# Altium schematic symbol library ALCT_MEZ_SPARTAN6_Library.SchLib: 214 symbols (part 4 of 7)
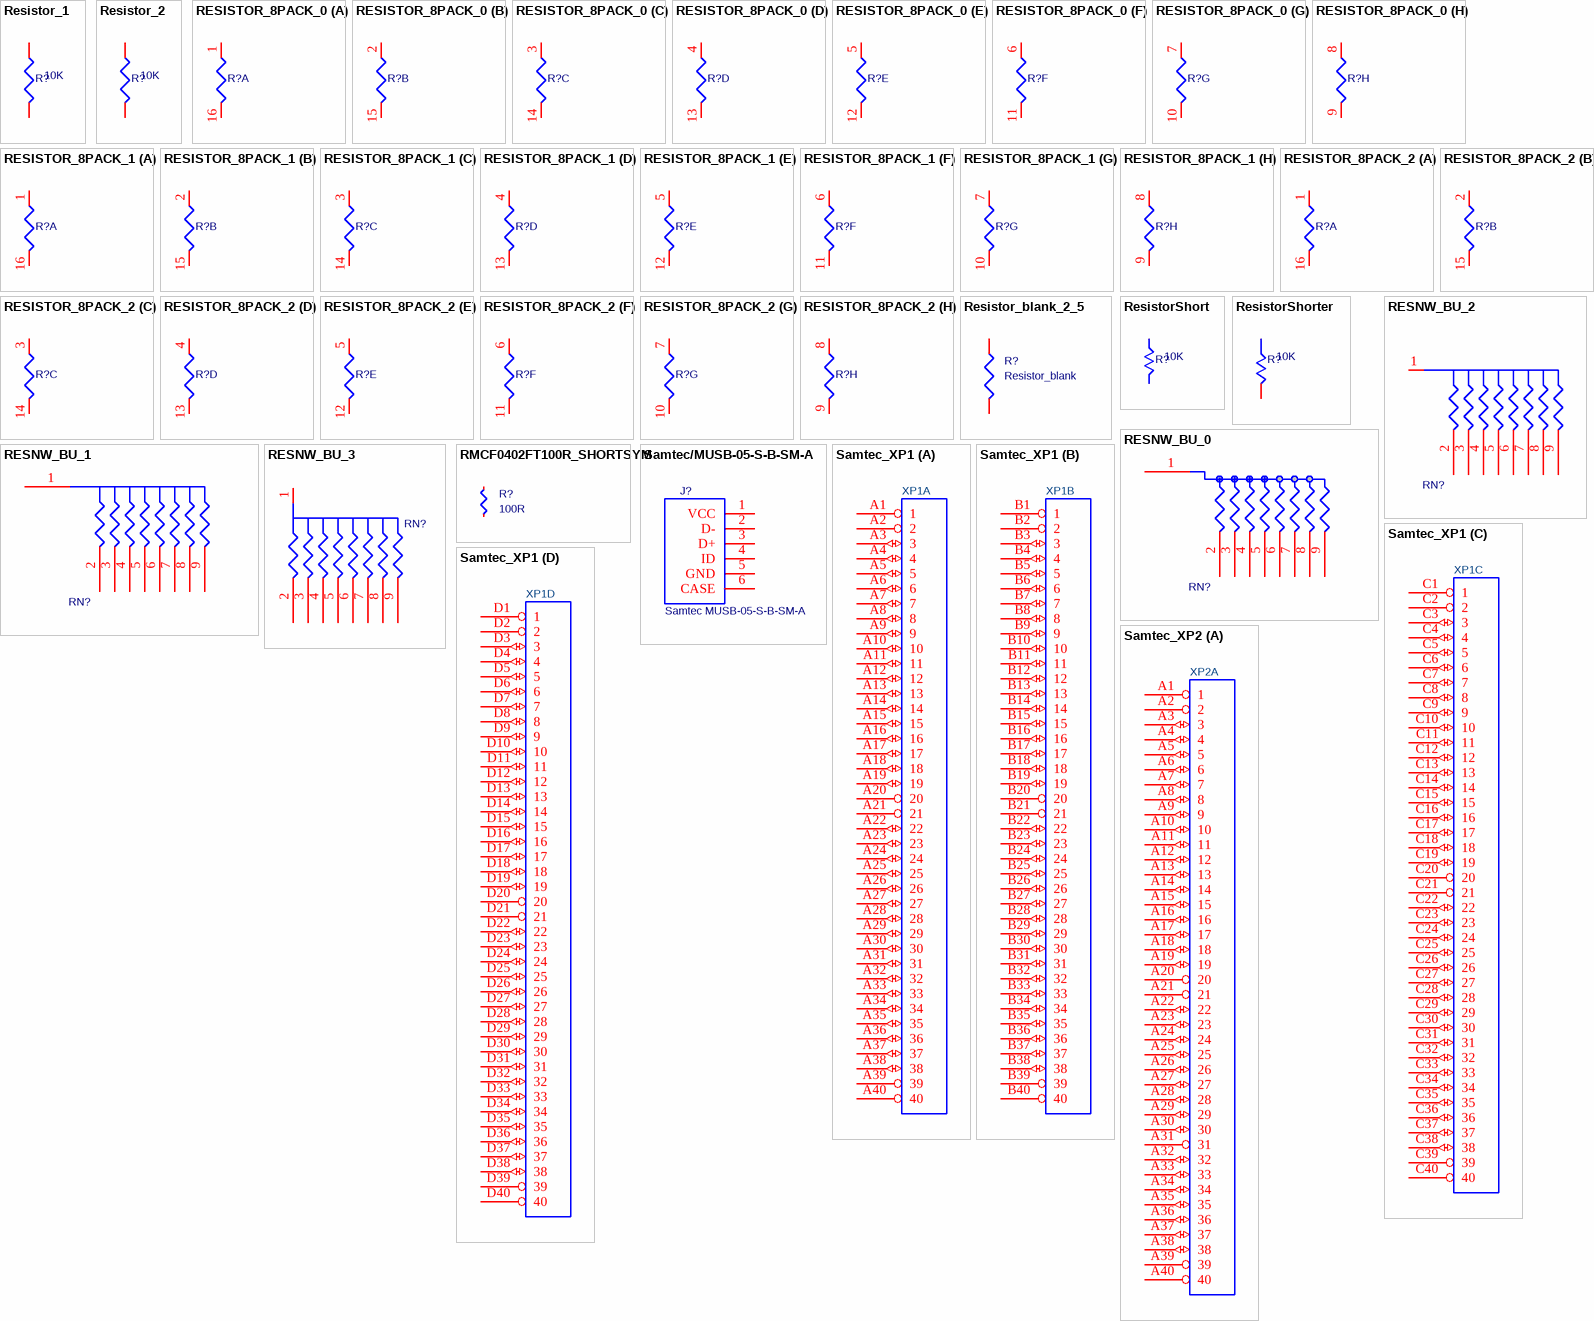
[diagram p23: symbols Resistor_1 to Samtec_XP2]

## RESISTOR_8PACK_2
designator R?
Package: 0
part A pins: 1, 16 2
part B pins: 2 1, 15 2
part C pins: 3 1, 14 2
part D pins: 4 1, 13 2
part E pins: 5 1, 12 2
part F pins: 6 1, 11 2
part G pins: 7 1, 10 2
part H pins: 8 1, 9 2

## Resistor_blank_2_5
designator R?, comment Resistor_blank
pins: 1, 2

## ResistorShort
designator R?, comment 10K
COMPSIDE: TOP; COMPGROUP: 0; mfgr_foot: SMT0805; mfgr: Panasonic; tolerance: 1%; mfgr_id: ERJ-6ENF1002V; COMPROT: 0
footprint GAPS/SM/R_0805
pins: 1, 2

## ResistorShorter
designator R?, comment 10K
mfgr_id: ERJ-6ENF1002V; tolerance: 1%; mfgr: Panasonic; mfgr_foot: SMT0805; COMPROT: 0; COMPSIDE: TOP; COMPGROUP: 0
footprint GAPS/SM/R_0805
pins: 1, 2

## RESNW_BU_0
designator RN?
pins: 1, 2, 3, 4, 5, 6, 7, 8, 9

## RESNW_BU_1
designator RN?
pins: 1, 2, 3, 4, 5, 6, 7, 8, 9

## RESNW_BU_2
designator RN?
pins: 1, 2, 3, 4, 5, 6, 7, 8, 9

## RESNW_BU_3
designator RN?
pins: 1, 2, 3, 4, 5, 6, 7, 8, 9

## RMCF0402FT100R_SHORTSYM
designator R?, comment 100R
RES SMD 510 OHM 1% 1/16W 0402; Manufacturer: Stackpole Electronics Inc.; Manufacturer Part Number: RMCF0402FT100R; Power (Watts): 0.063W, 1/16W; Temperature Coefficient: ±100ppm/°C; Supplier 1: Digi-Key; RoHS: RoHS Compliant; Category: Resistors; Stock 1: 263860; Pricing 1: 1=0.1, 10=0.017, 100=0.0068, 1000=0.00306, 2500=0.00266, 5000=0.00219 (USD); Packaging: Digi-Reel®; Part Status: Active; Tolerance: ±1%; Composition: Thick Film; Features: Automotive AEC-Q200; Operating Temperature: -55°C ~ 155°C; Package / Case: 0402 (1005 Metric); Supplier Device Package: 0402; Size / Dimension: 0.039" L x 0.020" W (1.00mm x 0.50mm); Height - Seated (Max): 0.016" (0.40mm); Failure Rate: -; ComponentLink1URL: https://www.seielect.com/Catalog/SEI-RMCF_RMCP.pdf; ComponentLink1Description: https://www.seielect.com/Catalog/SEI-RMCF_RMCP.pdf; Supplier Part Number 1: RMCF0402FT100RDKR-ND
footprint MC_S6/SM/R_0402_IPC
pins: 1, 2

## Samtec/MUSB-05-S-B-SM-A
designator J?, comment Samtec MUSB-05-S-B-SM-A
USB, Mini-USB, SMD; Manufacturer: Samtec Inc.; Connector Type: USB - mini B; Number of Contacts: 5; Gender: Receptacle; Specifications: USB 2.0; Supplier 1: Digi-Key; Manufacturer Part Number: MUSB-05-S-B-SM-A; RoHS: RoHS Compliant; Category: Connectors, Interconnects; Stock 1: 1209; Pricing 1: 1=1.48, 10=1.222, 50=1.018, 100=0.9162, 250=0.84496, 500=0.7635, 1000=0.67697, 2500=0.64898, 5000=0.63625 (USD); Packaging: Tray; Mounting Type: Surface Mount, Right Angle, Horizontal; Features: Board Guide, Solder Retention; Ingress Protection: -; ComponentLink1URL: http://suddendocs.samtec.com/prints/musb-05-x-b-sm-a-x-xx-mkt.pdf; ComponentLink1Description: http://suddendocs.samtec.com/prints/musb-05-x-b-sm-a-x-xx-mkt.pdf; Supplier Part Number 1: SAM8841-ND
footprint MUSB-05-S-B-SM-A
pins: 1 VCC, 2 D-, 3 D+, 4 ID, 5 GND, 6 CASE

## Samtec_XP1
designator XP?
Manufacturer Part Number: MOLC-140-01-L-Q-LC; mfgr_id: MOLC-140-01-S-Q-LC; mfgr: Samtec; mfgr_foot: 40x4; COMPROT: 180; COMPGROUP: 0; COMPSIDE: TOP; Pitch Spacing: 1.27; No. of Contacts: 160; Gender: Header; Product Range: MOLC Series; Contact Termination Type: Through Hole; No. of Rows: 4; SVHC: No SVHC (12-Jan-2017; Package: XP1; Supplier 1: Farnell; Manufacturer: SAMTEC; RoHS: YES; Stock 1: 0; Pricing 1: 1=18.16, 3=17.11, 5=16.18, 10=15.35, 15=14.96, 25=14.34 (GBP); Contact Plating: Gold Plated Contacts; Contact Material: Phosphor Bronze; ComponentLink1URL: http://www.farnell.com/cad/2261282.pdf; ComponentLink1Description: http://www.farnell.com/cad/2261282.pdf; ComponentLink2URL: http://www.farnell.com/datasheets/2261038.pdf; ComponentLink2Description: http://www.farnell.com/datasheets/2261038.pdf; Supplier Part Number 1: 2732055
footprint MC_S6/TH/SAMTEC_MOLC_40x4
part A pins: A1 1 (power), A2 2 (power), A3 3 (io), A4 4 (io), A5 5 (io), A6 6 (io), A7 7 (io), A8 8 (io), A9 9 (io), A10 10 (io), A11 11 (io), A12 12 (io), A13 13 (io), A14 14 (io), A15 15 (io), A16 16 (io), A17 17 (io), A18 18 (io), A19 19 (io), A20 20 (power), A21 21 (power), A22 22 (io), A23 23 (io), A24 24 (io), A25 25 (io), A26 26 (io), A27 27 (io), A28 28 (io), A29 29 (io), A30 30 (io), A31 31 (io), A32 32 (io), A33 33 (io), A34 34 (io), A35 35 (io), A36 36 (io), A37 37 (io), A38 38 (io), A39 39 (power), A40 40 (power)
part B pins: B1 1 (power), B2 2 (power), B3 3 (io), B4 4 (io), B5 5 (io), B6 6 (io), B7 7 (io), B8 8 (io), B9 9 (io), B10 10 (io), B11 11 (io), B12 12 (io), B13 13 (io), B14 14 (io), B15 15 (io), B16 16 (io), B17 17 (io), B18 18 (io), B19 19 (io), B20 20 (power), B21 21 (power), B22 22 (io), B23 23 (io), B24 24 (io), B25 25 (io), B26 26 (io), B27 27 (io), B28 28 (io), B29 29 (io), B30 30 (io), B31 31 (io), B32 32 (io), B33 33 (io), B34 34 (io), B35 35 (io), B36 36 (io), B37 37 (io), B38 38 (io), B39 39 (power), B40 40 (power)
part C pins: C1 1 (power), C2 2 (power), C3 3 (io), C4 4 (io), C5 5 (io), C6 6 (io), C7 7 (io), C8 8 (io), C9 9 (io), C10 10 (io), C11 11 (io), C12 12 (io), C13 13 (io), C14 14 (io), C15 15 (io), C16 16 (io), C17 17 (io), C18 18 (io), C19 19 (io), C20 20 (power), C21 21 (power), C22 22 (io), C23 23 (io), C24 24 (io), C25 25 (io), C26 26 (io), C27 27 (io), C28 28 (io), C29 29 (io), C30 30 (io), C31 31 (io), C32 32 (io), C33 33 (io), C34 34 (io), C35 35 (io), C36 36 (io), C37 37 (io), C38 38 (io), C39 39 (power), C40 40 (power)
part D pins: D1 1 (power), D2 2 (power), D3 3 (io), D4 4 (io), D5 5 (io), D6 6 (io), D7 7 (io), D8 8 (io), D9 9 (io), D10 10 (io), D11 11 (io), D12 12 (io), D13 13 (io), D14 14 (io), D15 15 (io), D16 16 (io), D17 17 (io), D18 18 (io), D19 19 (io), D20 20 (power), D21 21 (power), D22 22 (io), D23 23 (io), D24 24 (io), D25 25 (io), D26 26 (io), D27 27 (io), D28 28 (io), D29 29 (io), D30 30 (io), D31 31 (io), D32 32 (io), D33 33 (io), D34 34 (io), D35 35 (io), D36 36 (io), D37 37 (io), D38 38 (io), D39 39 (power), D40 40 (power)
part A text: XP1A
part B text: XP1B
part C text: XP1C
part D text: XP1D

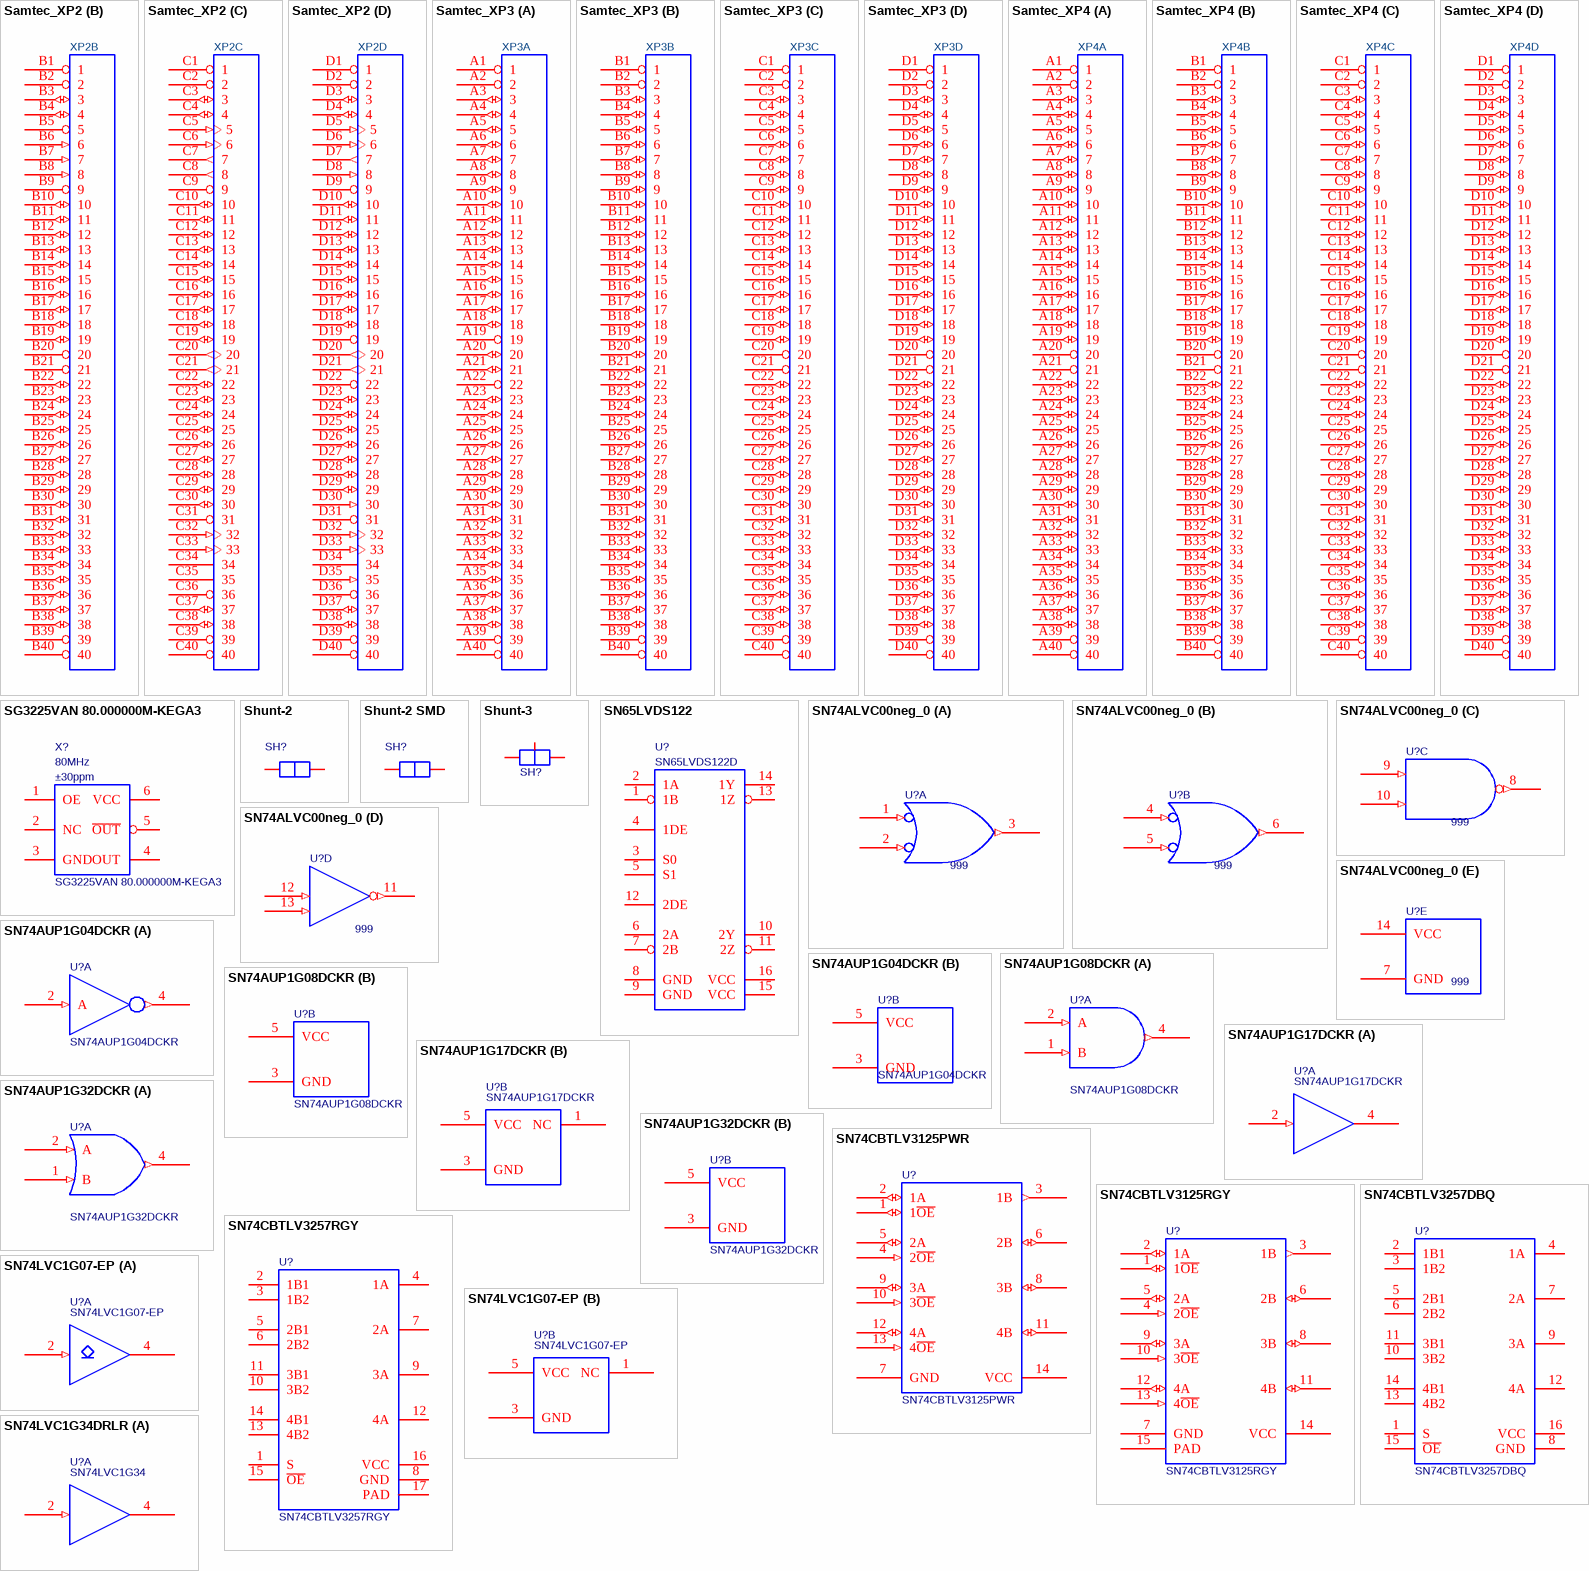
[diagram p6: symbols Samtec_XP2 to SN74LVC1G34DRLR]

## Samtec_XP2
designator XP?  (value not drawn)
Manufacturer Part Number: MOLC-140-01-L-Q-LC; mfgr_foot: 40x4; mfgr: Samtec; mfgr_id: MOLC-140-01-S-Q-LC; COMPROT: 270; COMPGROUP: 0; COMPSIDE: TOP; Pitch Spacing: 1.27; No. of Contacts: 160; Gender: Header; Product Range: MOLC Series; Contact Termination Type: Through Hole; No. of Rows: 4; SVHC: No SVHC (12-Jan-2017; Package: XP2; Supplier 1: Farnell; Manufacturer: SAMTEC; RoHS: YES; Stock 1: 0; Pricing 1: 1=18.16, 3=17.11, 5=16.18, 10=15.35, 15=14.96, 25=14.34 (GBP); Contact Plating: Gold Plated Contacts; Contact Material: Phosphor Bronze; ComponentLink1URL: http://www.farnell.com/cad/2261282.pdf; ComponentLink1Description: http://www.farnell.com/cad/2261282.pdf; ComponentLink2URL: http://www.farnell.com/datasheets/2261038.pdf; ComponentLink2Description: http://www.farnell.com/datasheets/2261038.pdf; Supplier Part Number 1: 2732055
footprint MC_S6/TH/SAMTEC_MOLC_40x4
part A pins: A1 1 (power), A2 2 (power), A3 3 (io), A4 4 (io), A5 5 (io), A6 6 (io), A7 7 (io), A8 8 (io), A9 9 (io), A10 10 (io), A11 11 (io), A12 12 (io), A13 13 (io), A14 14 (io), A15 15 (io), A16 16 (io), A17 17 (io), A18 18 (io), A19 19 (io), A20 20 (power), A21 21 (power), A22 22 (io), A23 23 (io), A24 24 (io), A25 25 (io), A26 26 (io), A27 27 (io), A28 28 (io), A29 29 (io), A30 30 (io), A31 31 (power), A32 32 (io), A33 33 (io), A34 34 (io), A35 35 (io), A36 36 (io), A37 37 (io), A38 38 (io), A39 39 (power), A40 40 (power)
part B pins: B1 1 (power), B2 2 (power), B3 3 (io), B4 4 (io), B5 5 (power), B6 6 (in), B7 7 (in), B8 8 (in), B9 9 (power), B10 10 (io), B11 11 (io), B12 12 (io), B13 13 (io), B14 14 (io), B15 15 (io), B16 16 (io), B17 17 (io), B18 18 (io), B19 19 (io), B20 20 (power), B21 21 (power), B22 22 (io), B23 23 (io), B24 24 (io), B25 25 (io), B26 26 (io), B27 27 (io), B28 28 (io), B29 29 (io), B30 30 (io), B31 31 (io), B32 32 (io), B33 33 (io), B34 34 (io), B35 35 (io), B36 36 (io), B37 37 (io), B38 38 (io), B39 39 (power), B40 40 (power)
part C pins: C1 1 (power), C2 2 (power), C3 3 (io), C4 4 (io), C5 5 (in), C6 6 (in), C7 7 (out), C8 8 (out), C9 9 (power), C10 10 (io), C11 11 (io), C12 12 (io), C13 13 (io), C14 14 (io), C15 15 (io), C16 16 (io), C17 17 (io), C18 18 (io), C19 19 (io), C20 20 (out), C21 21 (out), C22 22 (io), C23 23 (io), C24 24 (io), C25 25 (io), C26 26 (io), C27 27 (io), C28 28 (io), C29 29 (io), C30 30 (io), C31 31 (power), C32 32 (in), C33 33 (in), C34 34, C35 35, C36 36 (power), C37 37 (io), C38 38 (io), C39 39 (power), C40 40 (power)
part D pins: D1 1 (power), D2 2 (power), D3 3 (io), D4 4 (io), D5 5 (in), D6 6 (in), D7 7 (out), D8 8 (in), D9 9 (power), D10 10 (io), D11 11 (io), D12 12 (io), D13 13 (io), D14 14 (io), D15 15 (io), D16 16 (io), D17 17 (io), D18 18 (io), D19 19 (power), D20 20 (out), D21 21 (out), D22 22 (power), D23 23 (io), D24 24 (io), D25 25 (io), D26 26 (io), D27 27 (io), D28 28 (io), D29 29 (io), D30 30 (in), D31 31 (power), D32 32 (in), D33 33 (in), D34 34 (oc), D35 35 (in), D36 36 (power), D37 37 (io), D38 38 (io), D39 39 (power), D40 40 (power)
part A text: XP2A
part B text: XP2B
part C text: XP2C
part D text: XP2D

## Samtec_XP3
designator XP?  (value not drawn)
Manufacturer Part Number: MOLC-140-01-L-Q-LC; mfgr_id: MOLC-140-01-S-Q-LC; mfgr: Samtec; mfgr_foot: 40x4; COMPROT: 270; COMPGROUP: 0; COMPSIDE: TOP; Pitch Spacing: 1.27; No. of Contacts: 160; Gender: Header; Product Range: MOLC Series; Contact Termination Type: Through Hole; No. of Rows: 4; SVHC: No SVHC (12-Jan-2017; Package: XP3; Supplier 1: Farnell; Manufacturer: SAMTEC; RoHS: YES; Stock 1: 0; Pricing 1: 1=18.16, 3=17.11, 5=16.18, 10=15.35, 15=14.96, 25=14.34 (GBP); Contact Plating: Gold Plated Contacts; Contact Material: Phosphor Bronze; ComponentLink1URL: http://www.farnell.com/cad/2261282.pdf; ComponentLink1Description: http://www.farnell.com/cad/2261282.pdf; ComponentLink2URL: http://www.farnell.com/datasheets/2261038.pdf; ComponentLink2Description: http://www.farnell.com/datasheets/2261038.pdf; Supplier Part Number 1: 2732055
footprint MC_S6/TH/SAMTEC_MOLC_40x4
part A pins: A1 1 (power), A2 2 (power), A3 3 (io), A4 4 (io), A5 5 (io), A6 6 (io), A7 7 (io), A8 8 (io), A9 9 (io), A10 10 (io), A11 11 (io), A12 12 (io), A13 13 (io), A14 14 (io), A15 15 (io), A16 16 (io), A17 17 (io), A18 18 (io), A19 19 (power), A20 20 (io), A21 21 (io), A22 22 (power), A23 23 (io), A24 24 (io), A25 25 (io), A26 26 (io), A27 27 (io), A28 28 (io), A29 29 (io), A30 30 (io), A31 31 (io), A32 32 (io), A33 33 (io), A34 34 (io), A35 35 (io), A36 36 (io), A37 37 (io), A38 38 (io), A39 39 (power), A40 40 (power)
part B pins: B1 1 (power), B2 2 (power), B3 3 (io), B4 4 (io), B5 5 (io), B6 6 (io), B7 7 (io), B8 8 (io), B9 9 (io), B10 10 (io), B11 11 (io), B12 12 (io), B13 13 (io), B14 14 (io), B15 15 (io), B16 16 (io), B17 17 (io), B18 18 (io), B19 19 (io), B20 20 (io), B21 21 (io), B22 22 (io), B23 23 (io), B24 24 (io), B25 25 (io), B26 26 (io), B27 27 (io), B28 28 (io), B29 29 (io), B30 30 (io), B31 31 (io), B32 32 (io), B33 33 (io), B34 34 (io), B35 35 (io), B36 36 (io), B37 37 (io), B38 38 (io), B39 39 (power), B40 40 (power)
part C pins: C1 1 (power), C2 2 (power), C3 3 (io), C4 4 (io), C5 5 (io), C6 6 (io), C7 7 (io), C8 8 (io), C9 9 (io), C10 10 (io), C11 11 (io), C12 12 (io), C13 13 (io), C14 14 (io), C15 15 (io), C16 16 (io), C17 17 (io), C18 18 (io), C19 19 (io), C20 20 (power), C21 21 (power), C22 22 (io), C23 23 (io), C24 24 (io), C25 25 (io), C26 26 (io), C27 27 (io), C28 28 (io), C29 29 (io), C30 30 (io), C31 31 (io), C32 32 (io), C33 33 (io), C34 34 (io), C35 35 (io), C36 36 (io), C37 37 (io), C38 38 (io), C39 39 (power), C40 40 (power)
part D pins: D1 1 (power), D2 2 (power), D3 3 (io), D4 4 (io), D5 5 (io), D6 6 (io), D7 7 (io), D8 8 (io), D9 9 (io), D10 10 (io), D11 11 (io), D12 12 (io), D13 13 (io), D14 14 (io), D15 15 (io), D16 16 (io), D17 17 (io), D18 18 (io), D19 19 (io), D20 20 (power), D21 21 (power), D22 22 (io), D23 23 (io), D24 24 (io), D25 25 (io), D26 26 (io), D27 27 (io), D28 28 (io), D29 29 (io), D30 30 (io), D31 31 (io), D32 32 (io), D33 33 (io), D34 34 (io), D35 35 (io), D36 36 (io), D37 37 (io), D38 38 (io), D39 39 (power), D40 40 (power)
part A text: XP3A
part B text: XP3B
part C text: XP3C
part D text: XP3D

## Samtec_XP4
designator XP?  (value not drawn)
Manufacturer Part Number: MOLC-140-01-L-Q-LC; mfgr_id: MOLC-140-01-S-Q-LC; mfgr: Samtec; mfgr_foot: 40x4; COMPROT: 180; COMPGROUP: 0; COMPSIDE: TOP; Pitch Spacing: 1.27; No. of Contacts: 160; Gender: Header; Product Range: MOLC Series; Contact Termination Type: Through Hole; No. of Rows: 4; SVHC: No SVHC (12-Jan-2017; Package: XP4; Supplier 1: Farnell; Manufacturer: SAMTEC; RoHS: YES; Stock 1: 0; Pricing 1: 1=18.16, 3=17.11, 5=16.18, 10=15.35, 15=14.96, 25=14.34 (GBP); Contact Plating: Gold Plated Contacts; Contact Material: Phosphor Bronze; ComponentLink1URL: http://www.farnell.com/cad/2261282.pdf; ComponentLink1Description: http://www.farnell.com/cad/2261282.pdf; ComponentLink2URL: http://www.farnell.com/datasheets/2261038.pdf; ComponentLink2Description: http://www.farnell.com/datasheets/2261038.pdf; Supplier Part Number 1: 2732055
footprint MC_S6/TH/SAMTEC_MOLC_40x4
part A pins: A1 1 (power), A2 2 (power), A3 3 (io), A4 4 (io), A5 5 (io), A6 6 (io), A7 7 (io), A8 8 (io), A9 9 (io), A10 10 (io), A11 11 (io), A12 12 (io), A13 13 (io), A14 14 (io), A15 15 (io), A16 16 (io), A17 17 (io), A18 18 (io), A19 19 (io), A20 20 (power), A21 21 (power), A22 22 (io), A23 23 (io), A24 24 (io), A25 25 (io), A26 26 (io), A27 27 (io), A28 28 (io), A29 29 (io), A30 30 (io), A31 31 (io), A32 32 (io), A33 33 (io), A34 34 (io), A35 35 (io), A36 36 (io), A37 37 (io), A38 38 (io), A39 39 (power), A40 40 (power)
part B pins: B1 1 (power), B2 2 (power), B3 3 (io), B4 4 (io), B5 5 (io), B6 6 (io), B7 7 (io), B8 8 (io), B9 9 (io), B10 10 (io), B11 11 (io), B12 12 (io), B13 13 (io), B14 14 (io), B15 15 (io), B16 16 (io), B17 17 (io), B18 18 (io), B19 19 (io), B20 20 (power), B21 21 (power), B22 22 (io), B23 23 (io), B24 24 (io), B25 25 (io), B26 26 (io), B27 27 (io), B28 28 (io), B29 29 (io), B30 30 (io), B31 31 (io), B32 32 (io), B33 33 (io), B34 34 (io), B35 35 (io), B36 36 (io), B37 37 (io), B38 38 (io), B39 39 (power), B40 40 (power)
part C pins: C1 1 (power), C2 2 (power), C3 3 (io), C4 4 (io), C5 5 (io), C6 6 (io), C7 7 (io), C8 8 (io), C9 9 (io), C10 10 (io), C11 11 (io), C12 12 (io), C13 13 (io), C14 14 (io), C15 15 (io), C16 16 (io), C17 17 (io), C18 18 (io), C19 19 (io), C20 20 (power), C21 21 (power), C22 22 (io), C23 23 (io), C24 24 (io), C25 25 (io), C26 26 (io), C27 27 (io), C28 28 (io), C29 29 (io), C30 30 (io), C31 31 (io), C32 32 (io), C33 33 (io), C34 34 (io), C35 35 (io), C36 36 (io), C37 37 (io), C38 38 (io), C39 39 (power), C40 40 (power)
part D pins: D1 1 (power), D2 2 (power), D3 3 (io), D4 4 (io), D5 5 (io), D6 6 (io), D7 7 (io), D8 8 (io), D9 9 (io), D10 10 (io), D11 11 (io), D12 12 (io), D13 13 (io), D14 14 (io), D15 15 (io), D16 16 (io), D17 17 (io), D18 18 (io), D19 19 (io), D20 20 (power), D21 21 (power), D22 22 (io), D23 23 (io), D24 24 (io), D25 25 (io), D26 26 (io), D27 27 (io), D28 28 (io), D29 29 (io), D30 30 (io), D31 31 (io), D32 32 (io), D33 33 (io), D34 34 (io), D35 35 (io), D36 36 (io), D37 37 (io), D38 38 (io), D39 39 (power), D40 40 (power)
part A text: XP4A
part B text: XP4B
part C text: XP4C
part D text: XP4D

## SG3225VAN 80.000000M-KEGA3
designator X?  Frequency: 80MHz  Frequency Stability: ±30ppm
OSC 80.0000MHZ LVDS SMD; Manufacturer: EPSON; Function: Enable/Disable; Voltage - Supply: 2.5 V ~ 3.3 V; Current - Supply (Max): 30mA; Current - Supply (Disable) (Max): 20mA; Supplier 1: Digi-Key; Manufacturer Part Number: SG3225VAN 80.000000M-KEGA3; RoHS: RoHS Compliant; Category: Crystals, Oscillators, Resonators; Stock 1: 107; Pricing 1: 1=2.29, 10=2.241, 50=2.134, 100=1.8673 (USD); Packaging: Cut Tape (CT); Part Status: Active; Type: XO (Standard); Output: LVDS; Operating Temperature: -40°C ~ 85°C; Ratings: -; Mounting Type: Surface Mount; Package / Case: 6-SMD, No Lead (DFN, LCC); Size / Dimension: 0.126" L x 0.098" W (3.20mm x 2.50mm); Height - Seated (Max): 0.047" (1.20mm); ComponentLink1URL: https://support.epson.biz/td/api/doc_check.php?dl=brief_SG3225EAN_en.pdf; ComponentLink1Description: https://support.epson.biz/td/api/doc_check.php?dl=brief_SG3225EAN_en.pdf; Supplier 2: Digi-Key; Stock 2: 107; Pricing 2: 1=2.29, 10=2.241, 50=2.134, 100=1.8673 (USD); Supplier Part Number 1: SER3935CT-ND; Supplier Part Number 2: SER3935DKR-ND
footprint MC_S6/SM/XTAL-LVDS-3.2-2.5 (SMD Oscillator, 3.2x2.5 mm)
pins: 1 OE, 2 NC, 3 GND, 4 OUT, 5 ~{OUT}, 6 VCC

## Shunt-2
designator SH?, comment Shunt 1x2  (value not drawn)
SHUNT, 1x2
footprint SIP-2
pins: 1, 2

## Shunt-2 SMD
designator SH?, comment Shunt 1x2  (value not drawn)
Shunt-2 SMD; Manufacturer: Samtec Inc.; Manufacturer Part Number: TSM-102-01-L-SV-A-P-TR; Connector Type: Header; Pitch - Mating: 0.100" (2.54mm); Number of Positions: 2; Number of Positions Loaded: All; Style: Board to Board or Cable; Shrouding: Unshrouded; Contact Length - Mating: 0.230" (5.84mm); Material Flammability Rating: UL94 V-0; Supplier 1: Digi-Key; RoHS: RoHS Compliant; Category: Connectors, Interconnects; Stock 1: 0; Pricing 1: 325=1.08302 (USD); Packaging: Tape & Reel (TR); Part Status: Active; Contact Type: Male Pin; Number of Rows: 1; Row Spacing - Mating: -; Mounting Type: Surface Mount; Termination: Solder; Fastening Type: Push-Pull; Contact Length - Post: -; Overall Contact Length: -; Insulation Height: 0.100" (2.54mm); Contact Shape: Square; Contact Finish - Mating: Gold; Contact Finish Thickness - Mating: 10µin (0.25µm); Contact Finish - Post: Tin; Contact Material: Phosphor Bronze; Insulation Material: Liquid Crystal Polymer (LCP); Features: Board Guide, Pick and Place; Operating Temperature: -55°C ~ 125°C; Ingress Protection: -; Insulation Color: Black; Current Rating: -; Voltage Rating: -; Mated Stacking Heights: -; Contact Finish Thickness - Post: -; Applications: -; ComponentLink1URL: http://suddendocs.samtec.com/prints/tsm-1xx-xx-xxx-sv-xx-xxx-xx-mkt.pdf; ComponentLink1Description: http://suddendocs.samtec.com/prints/tsm-1xx-xx-xxx-sv-xx-xxx-xx-mkt.pdf; Supplier Part Number 1: TSM-102-01-L-SV-A-P-TR-ND
footprint MC_S6/SM/TSM-102-01-L-SV-A-P-TR (Samtec TSM-102-01-L-SV-A-P-TR)
pins: 1, 2

## Shunt-3
designator SH?  (value not drawn)
SHUNT, 1x3
footprint SIP-3
pins: 1, 2, 3

## SN65LVDS122
designator U?, comment SN65LVDS122D
pins: 1 1B, 2 1A, 3 S0, 4 1DE, 5 S1, 6 2A, 7 2B, 8 GND, 9 GND, 10 2Y, 11 2Z, 12 2DE, 13 1Z, 14 1Y, 15 VCC, 16 VCC

## SN74ALVC00neg_0
designator U?  Package: 999
mfgr_id: SN74ALVC00D; mfgr: TexasInst; mfgr_foot: D14
footprint SOG.050/14/WG.244/L.350
part A pins: 1 A (in), 2 B (in), 3 O (out)
part B pins: 4 A (in), 5 B (in), 6 O (out)
part C pins: 8 Y (out), 9 A (in), 10 B (in)
part D pins: 11 O (out), 12 A (in), 13 B (in)
part E pins: 7 GND (power), 14 VCC (power)

## SN74AUP1G04DCKR
designator U?
IC INVERTER LP 5TSSOP; Manufacturer: Texas Instruments; Number of Inputs: 1; Voltage - Supply: 0.8 V ~ 3.6 V; Current - Output High, Low: 4mA, 4mA; Logic Level - Low: 0.7 V ~ 0.9 V; Logic Level - High: 1.6 V ~ 2 V; Max Propagation Delay @ V, Max CL: 5.4ns @ 3.3V, 30pF; Supplier 1: Digi-Key; Manufacturer Part Number: SN74AUP1G04DCKR; RoHS: RoHS Compliant; Category: Integrated Circuits (ICs); Stock 1: 7270; Pricing 1: 1=0.48, 10=0.364, 100=0.227, 500=0.15532, 1000=0.11948 (USD); Packaging: Digi-Reel®; Part Status: Active; Logic Type: Inverter; Features: -; Operating Temperature: -40°C ~ 85°C; Mounting Type: Surface Mount; Supplier Device Package: SC-70-5; Package / Case: 5-TSSOP, SC-70-5, SOT-353; ComponentLink1URL: http://www.ti.com/lit/ds/symlink/sn74aup1g04.pdf; ComponentLink1Description: http://www.ti.com/lit/ds/symlink/sn74aup1g04.pdf; Supplier 2: Digi-Key; Stock 2: 7270; Pricing 2: 1=0.48, 10=0.364, 100=0.227, 500=0.15532, 1000=0.11948 (USD); Supplier Part Number 1: 296-19072-6-ND; Supplier Part Number 2: 296-19072-1-ND
footprint MC_S6/SM/SOT_SC70_DCK5
part A pins: 2 A (in), 4 Y (out)
part B pins: 3 GND (power), 5 VCC (power)

## SN74AUP1G08DCKR
designator U?
IC GATE AND 1CH 2-INP 5-TSSOP; Manufacturer: Texas Instruments; Manufacturer Part Number: SN74AUP1G08DCKT; Logic Type: AND Gate; Number of Inputs: 2; Voltage - Supply: 0.8 V ~ 3.6 V; Current - Output High, Low: 4mA, 4mA; Logic Level - Low: 0.7 V ~ 0.9 V; Logic Level - High: 1.6 V ~ 2 V; Max Propagation Delay @ V, Max CL: 6.2ns @ 3.3V, 30pF; Supplier 1: Digi-Key; RoHS: RoHS Compliant; Category: Integrated Circuits (ICs); Stock 1: 7470; Pricing 1: 1=0.8, 10=0.707, 100=0.542 (USD); Packaging: Cut Tape (CT); Part Status: Active; Features: -; Operating Temperature: -40°C ~ 85°C; Mounting Type: Surface Mount; Supplier Device Package: SC-70-5; Package / Case: 5-TSSOP, SC-70-5, SOT-353; ComponentLink1URL: http://www.ti.com/lit/ds/symlink/sn74aup1g08.pdf; ComponentLink1Description: http://www.ti.com/lit/ds/symlink/sn74aup1g08.pdf; Supplier 2: Digi-Key; Stock 2: 7470; Pricing 2: 1=0.8, 10=0.707, 100=0.542 (USD); Supplier Part Number 1: 296-32258-1-ND; Supplier Part Number 2: 296-32258-6-ND
footprint MC_S6/SM/SOT_SC70_DCK5
part A pins: 1 B (in), 2 A (in), 4 Y (out)
part B pins: 3 GND (power), 5 VCC (power)

## SN74AUP1G17DCKR
designator U?
IC BUFF/DVR NON-INVERT Schmitt SC70-5
footprint MC_S6/SM/SOT_SC70_DCK5
part A pins: 2 A (in), 4 Y (oc)
part B pins: 1 NC, 3 GND (power), 5 VCC (power)

## SN74AUP1G32DCKR
designator U?
IC GATE OR 1CH 2-INP 5-TSSOP; Manufacturer: Texas Instruments; Manufacturer Part Number: SN74AUP1G32DCKT; Logic Type: OR Gate; Number of Inputs: 2; Voltage - Supply: 0.8 V ~ 3.6 V; Current - Output High, Low: 4mA, 4mA; Logic Level - Low: 0.7 V ~ 0.9 V; Logic Level - High: 1.6 V ~ 2 V; Max Propagation Delay @ V, Max CL: 6.4ns @ 3.3V, 30pF; Supplier 1: Digi-Key; RoHS: RoHS Compliant; Category: Integrated Circuits (ICs); Stock 1: 96; Pricing 1: 1=0.8, 10=0.707, 100=0.542 (USD); Packaging: Cut Tape (CT); Part Status: Active; Features: -; Operating Temperature: -40°C ~ 85°C; Mounting Type: Surface Mount; Supplier Device Package: SC-70-5; Package / Case: 5-TSSOP, SC-70-5, SOT-353; ComponentLink1URL: http://www.ti.com/lit/ds/symlink/sn74aup1g32.pdf; ComponentLink1Description: http://www.ti.com/lit/ds/symlink/sn74aup1g32.pdf; Supplier 2: Digi-Key; Stock 2: 96; Pricing 2: 1=0.8, 10=0.707, 100=0.542 (USD); Supplier Part Number 1: 296-32262-1-ND; Supplier Part Number 2: 296-32262-6-ND
footprint MC_S6/SM/SOT_SC70_DCK5
part A pins: 1 B (in), 2 A (in), 4 Y (out)
part B pins: 3 GND (power), 5 VCC (power)

## SN74CBTLV3125PWR
designator U?
IC 4 BIT FET BUS SWITCH, TSSOP-14; Manufacturer: Texas Instruments (TI); Supply Voltage: 3.3V; Max Supply Voltage: 3.6V; Min Supply Voltage: 2.3V; High Level Output Current: -128mA; Low Level Output Current: 128mA; Number of Elements: 4; Output Current: 64mA; Propagation Delay: 4.6ns; Nominal Supply Current: 10uA; On-State Resistance: 7R; Supply Type: Single; Bandwidth: 200MHz; Polarity: Non-Inverting; Throw Configuration: SPST; Supplier 1: Digikey; Manufacturer Part Number: SN74CBTLV3125PWR; Stock 1: 4619; Pricing 1: 1=0.93, 10=0.816, 100=0.6254, 500=0.4944, 1000=0.3955 (USD); Mount: Surface Mount; Case/Package: TSSOP; Number of Pins: 14; Weight: 0.002018oz; Contact Plating: Gold; Min Operating Temperature: -40°C; Max Operating Temperature: 85°C; Packaging: Tape and Reel; Number of Channels: 4; Package Quantity: 1; Number of Bits: 4; Turn-On Delay Time: 4.6ns; Quiescent Current: 10uA; Independent Circuits: 4; Radiation Hardening: No; REACH SVHC: No SVHC; Lead Free: Lead Free; ComponentLink1URL: https://datasheet.ciiva.com/15096/getdatasheetpartid-251153-15096784.pdf; ComponentLink1Description: https://datasheet.ciiva.com/15096/getdatasheetpartid-251153-15096784.pdf; ComponentLink2URL: https://datasheet.ciiva.com/1509/1886140-1509796.pdf; ComponentLink2Description: https://datasheet.ciiva.com/1509/1886140-1509796.pdf; ComponentLink3URL: https://datasheet.ciiva.com/34303/1999565-34303732.pdf; ComponentLink3Description: https://datasheet.ciiva.com/34303/1999565-34303732.pdf; ComponentLink4URL: https://datasheet.ciiva.com/1889/sn74cbtlv3125-1889221.pdf; ComponentLink4Description: https://datasheet.ciiva.com/1889/sn74cbtlv3125-1889221.pdf; ComponentLink5URL: https://datasheet.ciiva.com/25994/sn74cbtlv3125-25994677.pdf; ComponentLink5Description: https://datasheet.ciiva.com/25994/sn74cbtlv3125-25994677.pdf; ComponentLink6URL: https://datasheet.ciiva.com/46393/1834757-46393989.pdf; ComponentLink6Description: https://datasheet.ciiva.com/46393/1834757-46393989.pdf; ComponentLink7URL: https://datasheet.ciiva.com/1889/sn74cbtlv3125-1889222.pdf; ComponentLink7Description: https://datasheet.ciiva.com/1889/sn74cbtlv3125-1889222.pdf; ComponentLink8URL: https://datasheet.ciiva.com/1889/sn74cbtlv3125-1889223.pdf; ComponentLink8Description: https://datasheet.ciiva.com/1889/sn74cbtlv3125-1889223.pdf; ComponentLink9URL: https://datasheet.ciiva.com/41457/001016556-da-01-en-ic-bus-qua-sn74cbtlv3125pwr-tssop-14-tid-41457210.pdf; ComponentLink9Description: https://datasheet.ciiva.com/41457/001016556-da-01-en-ic-bus-qua-sn74cbtlv3125pwr-tssop-14-tid-41457210.pdf; Supplier 2: Digikey; Stock 2: 4619; Pricing 2: 1=0.93, 10=0.816, 100=0.6254, 500=0.4944, 1000=0.3955 (USD); Supplier Part Number 1: 296-9114-1-ND; Supplier Part Number 2: 296-9114-6-ND
pins: 1 1~{OE} (io), 2 1A (io), 3 1B (out), 4 2~{OE} (in), 5 2A (io), 6 2B (io), 7 GND (power), 8 3B (io), 9 3A (io), 10 3~{OE} (in), 11 4B (io), 12 4A (io), 13 4~{OE} (in), 14 VCC (power)

## SN74CBTLV3125RGY
designator U?
IC 4 BIT FET BUS SWITCH, QFN-14; Manufacturer: Texas Instruments; Manufacturer Part Number: SN74CBTLV3125RGYR; Circuit: 1 x 1:1; Voltage Supply Source: Single Supply; Voltage - Supply: 2.3 V ~ 3.6 V; Supplier 1: Digi-Key; RoHS: RoHS Compliant; Category: Integrated Circuits (ICs); Stock 1: 3196; Pricing 1: 1=0.93, 10=0.83, 100=0.6467, 500=0.53426, 1000=0.42179 (USD); Packaging: Cut Tape (CT); Part Status: Active; Type: Bus Switch; Current - Output High, Low: -; Operating Temperature: -40°C ~ 85°C; Mounting Type: Surface Mount; Package / Case: 14-VFQFN Exposed Pad; Supplier Device Package: 14-VQFN (3.5x3.5); ComponentLink1URL: http://www.ti.com/lit/ds/symlink/sn74cbtlv3125.pdf; ComponentLink1Description: http://www.ti.com/lit/ds/symlink/sn74cbtlv3125.pdf; Supplier 2: Digi-Key; Stock 2: 3196; Pricing 2: 1=0.93, 10=0.83, 100=0.6467, 500=0.53426, 1000=0.42179 (USD); Supplier Part Number 1: 296-15103-1-ND; Supplier Part Number 2: 296-15103-6-ND
footprint S-PVQFN-N14
pins: 1 1~{OE} (io), 2 1A (io), 3 1B (out), 4 2~{OE} (in), 5 2A (io), 6 2B (io), 7 GND (power), 8 3B (io), 9 3A (io), 10 3~{OE} (in), 11 4B (io), 12 4A (io), 13 4~{OE} (in), 14 VCC (power), 15 PAD (power)

## SN74CBTLV3257DBQ
designator U?
IC 4 BIT FET BUS SWITCH, SSOP-16; Manufacturer: Texas Instruments (TI); Manufacturer Part Number: SN74CBTLV3257DBQR; Logic Function: Multiplexer,Demultiplexer; Max Supply Voltage: 3.6V; Min Supply Voltage: 2.3V; Low Level Output Current: 128mA; High Level Output Current: -128mA; Number of Elements: 1; Propagation Delay: 6.1ns; Bandwidth: 200MHz; Number of Inputs: 8; Number of Outputs: 4; On-State Resistance: 40R; Operating Supply Current: 10uA; Supply Type: Single; Polarity: Non-Inverting; Throw Configuration: SPDT; Supplier 1: Digikey; Stock 1: 5668; Pricing 1: 1=0.9, 10=0.802, 100=0.6254, 500=0.5166, 1000=0.4079 (USD); Case/Package: SSOP; Number of Pins: 16; Weight: 0.002628oz; Contact Plating: Gold; Min Operating Temperature: -40°C; Max Operating Temperature: 85°C; Packaging: Tape and Reel; Package Quantity: 1; Number of Channels: 1; Supply Voltage: 3.6V; Number of Bits: 8; Turn-On Delay Time: 6.1ns; Quiescent Current: 10uA; Independent Circuits: 1; Radiation Hardening: No; REACH SVHC: No SVHC; Lead Free: Lead Free; ComponentLink1URL: https://datasheet.ciiva.com/3169/sn74cbtlv3257-3169424.pdf; ComponentLink1Description: https://datasheet.ciiva.com/3169/sn74cbtlv3257-3169424.pdf; ComponentLink2URL: https://datasheet.ciiva.com/1889/sn74cbtlv3257-1889156.pdf; ComponentLink2Description: https://datasheet.ciiva.com/1889/sn74cbtlv3257-1889156.pdf; ComponentLink3URL: https://datasheet.ciiva.com/1889/sn74cbtlv3257-1889157.pdf; ComponentLink3Description: https://datasheet.ciiva.com/1889/sn74cbtlv3257-1889157.pdf; ComponentLink4URL: https://datasheet.ciiva.com/1889/sn74cbtlv3257-1889158.pdf; ComponentLink4Description: https://datasheet.ciiva.com/1889/sn74cbtlv3257-1889158.pdf; ComponentLink5URL: https://datasheet.ciiva.com/25994/sn74cbtlv3257-25994535.pdf; ComponentLink5Description: https://datasheet.ciiva.com/25994/sn74cbtlv3257-25994535.pdf; ComponentLink6URL: https://datasheet.ciiva.com/27055/1999573-27055977.pdf; ComponentLink6Description: https://datasheet.ciiva.com/27055/1999573-27055977.pdf; ComponentLink7URL: https://datasheet.ciiva.com/3169/sn74cbtlv3257-3169114.pdf; ComponentLink7Description: https://datasheet.ciiva.com/3169/sn74cbtlv3257-3169114.pdf; ComponentLink8URL: https://datasheet.ciiva.com/15087/getdatasheetpartid-90880-15087130.pdf; ComponentLink8Description: https://datasheet.ciiva.com/15087/getdatasheetpartid-90880-15087130.pdf; ComponentLink9URL: https://datasheet.ciiva.com/28468/1847365-28468347.pdf; ComponentLink9Description: https://datasheet.ciiva.com/28468/1847365-28468347.pdf; ComponentLink10URL: https://datasheet.ciiva.com/46429/1847365-46429119.pdf; ComponentLink10Description: https://datasheet.ciiva.com/46429/1847365-46429119.pdf; Supplier Part Number 1: 296-9135-1-ND
pins: 1 S, 2 1B1, 3 1B2, 4 1A, 5 2B1, 6 2B2, 7 2A, 8 GND, 9 3A, 10 3B2, 11 3B1, 12 4A, 13 4B2, 14 4B1, 15 ~{OE}, 16 VCC

## SN74CBTLV3257RGY
designator U?
IC 4 BIT FET BUS SWITCH, VQFN-16; Manufacturer: Texas Instruments; Manufacturer Part Number: SN74CBTLV3257RGYR; Circuit: 4 x 2:1; Voltage Supply Source: Single Supply; Voltage - Supply: 2.3 V ~ 3.6 V; Supplier 1: Digi-Key; RoHS: RoHS Compliant; Category: Integrated Circuits (ICs); Stock 1: 4734; Pricing 1: 1=0.93, 10=0.83, 100=0.6467, 500=0.53426, 1000=0.42179 (USD); Packaging: Cut Tape (CT); Part Status: Active; Type: Multiplexer/Demultiplexer; Current - Output High, Low: -; Operating Temperature: -40°C ~ 85°C; Mounting Type: Surface Mount; Package / Case: 16-VFQFN Exposed Pad; Supplier Device Package: 16-VQFN (4x4); ComponentLink1URL: http://www.ti.com/lit/ds/symlink/sn74cbtlv3257.pdf; ComponentLink1Description: http://www.ti.com/lit/ds/symlink/sn74cbtlv3257.pdf; Supplier 2: Digi-Key; Stock 2: 4734; Pricing 2: 1=0.93, 10=0.83, 100=0.6467, 500=0.53426, 1000=0.42179 (USD); Supplier Part Number 1: 296-15107-1-ND; Supplier Part Number 2: 296-15107-6-ND
footprint R-PVQFN-N16 (QFN, 16-Leads, Body 4.00x3.50mm, Pitch 0.50mm/1.50mm, Thermal Pad 2.55x2.05mm, IPC Medium Density)
pins: 1 S, 2 1B1, 3 1B2, 4 1A, 5 2B1, 6 2B2, 7 2A, 8 GND, 9 3A, 10 3B2, 11 3B1, 12 4A, 13 4B2, 14 4B1, 15 ~{OE}, 16 VCC, 17 PAD

## SN74LVC1G07-EP
designator U?
IC BUFF/DVR NON-INVERT Open Drain SC70-5; Manufacturer: Texas Instruments; mfgr_id: SN74LVC1G07MDCKREP; mfgr: Texas Inst; mfgr_foot: DCK; COMPROT: 270; COMPGROUP: 0; COMPSIDE: TOP; Logic Type: Buffer, Non-Inverting; Number of Bits per Element: 1; Current - Output High, Low: -, 32mA; Voltage - Supply: 1.65 V ~ 5.5 V; Package: 99; Supplier 1: Digi-Key; Manufacturer Part Number: SN74LVC1G07MDCKREP; RoHS: RoHS Compliant; Category: Integrated Circuits (ICs); Stock 1: 4252; Pricing 1: 1=0.81, 10=0.714, 100=0.5472, 500=0.4326, 1000=0.34608 (USD); Packaging: Cut Tape (CT); Part Status: Active; Input Type: -; Output Type: Open Drain; Operating Temperature: -55°C ~ 125°C (TA); Mounting Type: Surface Mount; Package / Case: 5-TSSOP, SC-70-5, SOT-353; Supplier Device Package: SC-70-5; ComponentLink1URL: http://www.ti.com/lit/ds/symlink/sn74lvc1g07-ep.pdf; ComponentLink1Description: http://www.ti.com/lit/ds/symlink/sn74lvc1g07-ep.pdf; Supplier 2: Digi-Key; Stock 2: 4252; Pricing 2: 1=0.81, 10=0.714, 100=0.5472, 500=0.4326, 1000=0.34608 (USD); Supplier Part Number 1: 296-22343-1-ND; Supplier Part Number 2: 296-22343-6-ND
footprint SOT353-1 (SOT23, 5-Leads, Body 2.05x2.25mm, Pitch 0.65mm, IPC Medium Density)
part A pins: 2 A (in), 4 Y (oc)
part B pins: 1 NC, 3 GND (power), 5 VCC (power)

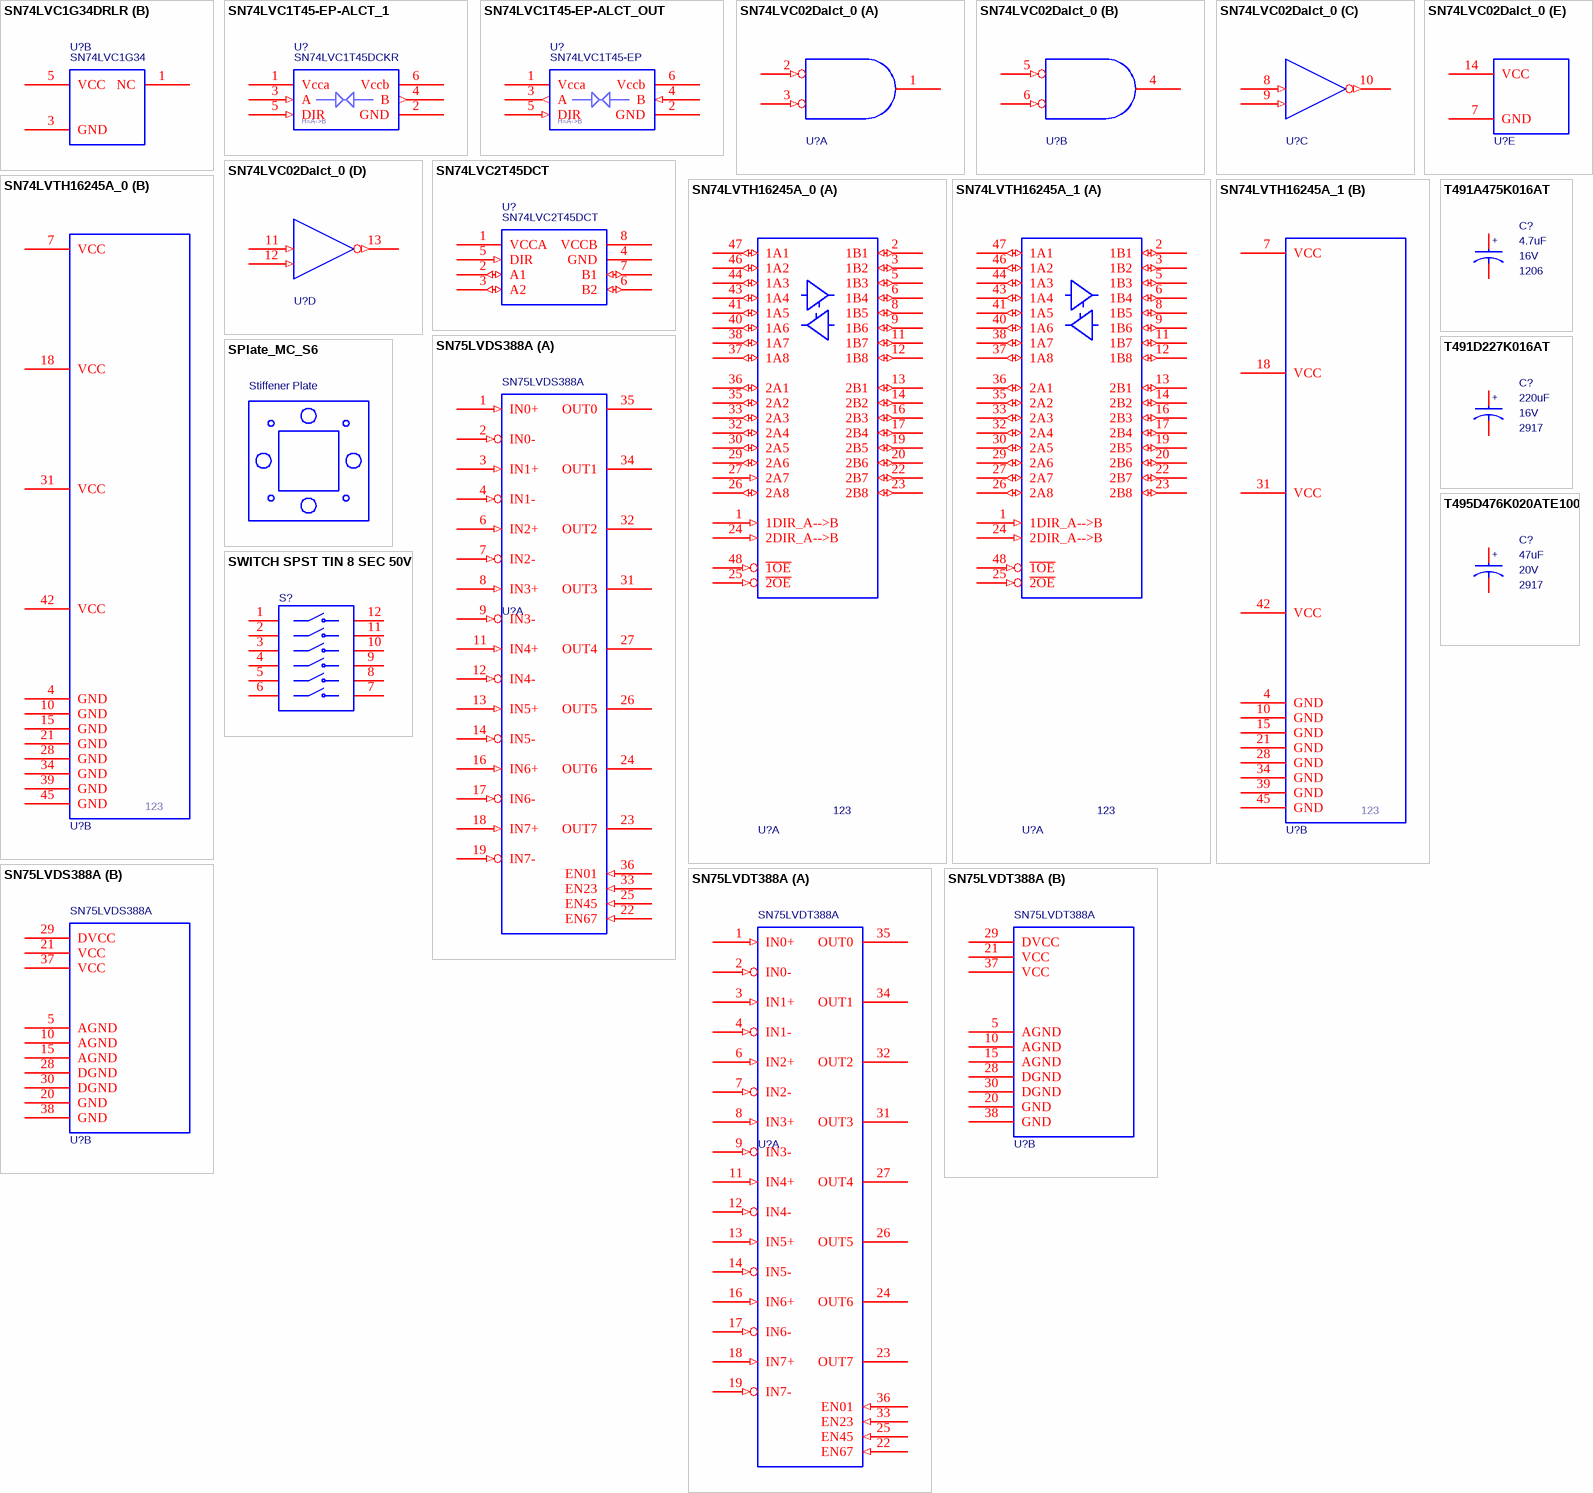
[diagram p7: symbols SN74LVC1G34DRLR to T495D476K020ATE100]

## SN74LVC1G34DRLR
designator U?, comment SN74LVC1G34
IC BUFFER NON-INVERT SOT5; Manufacturer: Texas Instruments; mfgr_id: SN74LVC1G34DRLR; mfgr: Texas Inst; mfgr_foot: DRL; COMPROT: 270; COMPGROUP: 0; COMPSIDE: TOP; Logic Type: Buffer, Non-Inverting; Number of Bits per Element: 1; Output Type: Push-Pull; Current - Output High, Low: 32mA, 32mA; Voltage - Supply: 1.65 V ~ 5.5 V; Package: 99; Supplier 1: Digi-Key; Manufacturer Part Number: SN74LVC1G34DRLR; RoHS: RoHS Compliant; Category: Integrated Circuits (ICs); Stock 1: 1633; Pricing 1: 1=0.48, 10=0.387, 100=0.2637, 500=0.19776, 1000=0.14832 (USD); Packaging: Cut Tape (CT); Part Status: Active; Input Type: -; Operating Temperature: -40°C ~ 125°C (TA); Mounting Type: Surface Mount; Package / Case: SOT-553; Supplier Device Package: SOT-5; ComponentLink1URL: http://www.ti.com/lit/ds/symlink/sn74lvc1g34.pdf; ComponentLink1Description: http://www.ti.com/lit/ds/symlink/sn74lvc1g34.pdf; Supplier 2: Digi-Key; Stock 2: 1633; Pricing 2: 1=0.48, 10=0.387, 100=0.2637, 500=0.19776, 1000=0.14832 (USD); Supplier Part Number 1: 296-18017-1-ND; Supplier Part Number 2: 296-18017-6-ND
footprint MC_S6/SM/SOT_553_DRL5
part A pins: 2 A (in), 4 Y (oc)
part B pins: 1 NC, 3 GND (power), 5 VCC (power)

## SN74LVC1T45-EP-ALCT_1
designator U?, comment SN74LVC1T45DCKR
IC BUS TRANSCVR TRI-ST SC70-6; Manufacturer: Texas Instruments; COMPSIDE: TOP; COMPGROUP: 0; COMPROT: 270; mfgr_id: SN74LVC1T45MDCKREP; mfgr: Texas Inst; mfgr_foot: DCK; Translator Type: Voltage Level; Channel Type: Bidirectional; Channels per Circuit: 1; Output Type: Tri-State, Non-Inverted; Data Rate: 420Mbps; Supplier 1: Digi-Key; Manufacturer Part Number: SN74LVC1T45DCKR; RoHS: RoHS Compliant; Category: Integrated Circuits (ICs); Stock 1: 91787; Pricing 1: 1=0.58, 10=0.494, 100=0.3692, 500=0.29004, 1000=0.22413 (USD); Packaging: Cut Tape (CT); Part Status: Active; Input Signal: -; Output Signal: -; Operating Temperature: -40°C ~ 85°C (TA); Features: -; Mounting Type: Surface Mount; Package / Case: 6-TSSOP, SC-88, SOT-363; Supplier Device Package: SC-70-6; ComponentLink1URL: http://www.ti.com/lit/ds/symlink/sn74lvc1t45.pdf; ComponentLink1Description: http://www.ti.com/lit/ds/symlink/sn74lvc1t45.pdf; Supplier 2: Digi-Key; Stock 2: 91787; Pricing 2: 1=0.58, 10=0.494, 100=0.3692, 500=0.29004, 1000=0.22413 (USD); Supplier Part Number 1: 296-16844-1-ND; Supplier Part Number 2: 296-16844-6-ND
footprint MC_S6/SM/SOT_SC70_DCK6
pins: 1 Vcca (power), 2 GND (power), 3 A (in), 4 B (out), 5 DIR (in), 6 Vccb (power)
text: H=A->B

## SN74LVC1T45-EP-ALCT_OUT
designator U?, comment SN74LVC1T45-EP
IC BUS TRANSCVR TRI-ST SC70-6; COMPSIDE: TOP; COMPGROUP: 0; COMPROT: 270; mfgr_id: SN74LVC1T45MDCKREP; mfgr: Texas Inst; mfgr_foot: DCK
footprint MC_S6/SM/SOT_SC70_DCK6
pins: 1 Vcca (power), 2 GND (power), 3 A (out), 4 B (in), 5 DIR (in), 6 Vccb (power)
text: H=A->B

## SN74LVC02Dalct_0
designator U?
mfgr_foot: D14; mfgr: TexasInst; mfgr_id: SN74LVC02AD; Package: 999
footprint SOG.050/14/WG.244/L.350
part A pins: 1 Y (hiz), 2 A (in), 3 B (in)
part B pins: 4 Y (hiz), 5 A (in), 6 B (in)
part C pins: 8 A (in), 9 B (in), 10 O (out)
part D pins: 11 A (in), 12 B (in), 13 O (out)
part E pins: 7 GND (power), 14 VCC (power)

## SN74LVC2T45DCT
designator U?
Manufacturer: Texas Instruments; Manufacturer Part Number: SN74LVC2T45DCTR; Translator Type: Voltage Level; Channel Type: Bidirectional; Channels per Circuit: 2; Output Type: Tri-State, Non-Inverted; Data Rate: 420Mbps; Supplier 1: Digi-Key; RoHS: RoHS Compliant; Category: Integrated Circuits (ICs); Stock 1: 53243; Pricing 1: 1=0.61, 10=0.537, 100=0.4117, 500=0.32548, 1000=0.26038 (USD); Packaging: Cut Tape (CT); Part Status: Active; Input Signal: -; Output Signal: -; Operating Temperature: -40°C ~ 85°C (TA); Features: -; Mounting Type: Surface Mount; Package / Case: 8-LSSOP, 8-MSOP (0.110", 2.80mm Width); Supplier Device Package: SM8; ComponentLink1URL: http://www.ti.com/lit/ds/symlink/sn74lvc2t45.pdf; ComponentLink1Description: http://www.ti.com/lit/ds/symlink/sn74lvc2t45.pdf; Supplier 2: Digi-Key; Stock 2: 53243; Pricing 2: 1=0.61, 10=0.537, 100=0.4117, 500=0.32548, 1000=0.26038 (USD); Supplier Part Number 1: 296-16845-1-ND; Supplier Part Number 2: 296-16845-6-ND
footprint DCT R-PDSO-G8
pins: 1 VCCA (power), 2 A1 (io), 3 A2 (io), 4 GND (power), 5 DIR (in), 6 B2 (io), 7 B1 (io), 8 VCCB

## SN74LVTH16245A_0
designator U?  Package: 123
mfgr_id: SN74LVTH16245ADGG; mfgr: TexasInst; mfgr_foot: DGG48
footprint SOG.50M/48/WG8.40/L13.33
part A pins: 1 1DIR_A-->B (in), 2 1B1 (io), 3 1B2 (io), 5 1B3 (io), 6 1B4 (io), 8 1B5 (io), 9 1B6 (io), 11 1B7 (io), 12 1B8 (io), 13 2B1 (io), 14 2B2 (io), 16 2B3 (io), 17 2B4 (io), 19 2B5 (io), 20 2B6 (io), 22 2B7 (io), 23 2B8 (io), 24 2DIR_A-->B (in), 25 ~{2OE} (in), 26 2A8 (io), 27 2A7 (in), 29 2A6 (io), 30 2A5 (io), 32 2A4 (io), 33 2A3 (io), 35 2A2 (io), 36 2A1 (io), 37 1A8 (io), 38 1A7 (io), 40 1A6 (io), 41 1A5 (io), 43 1A4 (io), 44 1A3 (io), 46 1A2 (io), 47 1A1 (io), 48 ~{1OE} (in)
part B pins: 4 GND (power), 7 VCC (power), 10 GND (power), 15 GND (power), 18 VCC (power), 21 GND (power), 28 GND (power), 31 VCC (power), 34 GND (power), 39 GND (power), 42 VCC (power), 45 GND (power)

## SN74LVTH16245A_1
designator U?  Package: 123
mfgr_id: SN74LVTH16245ADGG; mfgr: TexasInst; mfgr_foot: DGG48
footprint SOG.50M/48/WG8.40/L13.33
part A pins: 1 1DIR_A-->B (in), 2 1B1 (io), 3 1B2 (io), 5 1B3 (io), 6 1B4 (io), 8 1B5 (io), 9 1B6 (io), 11 1B7 (io), 12 1B8 (io), 13 2B1 (io), 14 2B2 (io), 16 2B3 (io), 17 2B4 (io), 19 2B5 (io), 20 2B6 (io), 22 2B7 (io), 23 2B8 (io), 24 2DIR_A-->B (in), 25 ~{2OE} (in), 26 2A8 (io), 27 2A7 (io), 29 2A6 (io), 30 2A5 (io), 32 2A4 (io), 33 2A3 (io), 35 2A2 (io), 36 2A1 (io), 37 1A8 (io), 38 1A7 (io), 40 1A6 (io), 41 1A5 (io), 43 1A4 (io), 44 1A3 (io), 46 1A2 (io), 47 1A1 (io), 48 ~{1OE} (in)
part B pins: 4 GND (power), 7 VCC (power), 10 GND (power), 15 GND (power), 18 VCC (power), 21 GND (power), 28 GND (power), 31 VCC (power), 34 GND (power), 39 GND (power), 42 VCC (power), 45 GND (power)

## SN75LVDS388A
designator U?
IC 8-CH HS DIFF RECEIVER 38TSSOP; Manufacturer: Texas Instruments; Manufacturer Part Number: SN75LVDS388ADBT; Data Rate: 630Mbps; Propagation Delay: 4ns; Supply Voltage: 3.3V; Nominal Supply Current: 40mA; Max Supply Voltage: 3.6V; Min Supply Voltage: 3V; Number of Elements: 8; Power Dissipation: 1.071W; Supplier 1: Avnet; Stock 1: 150; Pricing 1: 1=5.6551, 10=5.1083, 25=5.0955, 50=5.0828, 100=4.0037 (USD); Mount: Surface Mount; Case/Package: TSSOP; Number of Pins: 38; Weight: 0.004374oz; Min Operating Temperature: 0°C; Max Operating Temperature: 70°C; Packaging: Rail/Tube; Package Quantity: 50; Number of Receivers: 8; Number of Drivers: 8; Turn-On Delay Time: 4ns; Logic Function: Receiver; Radiation Hardening: No; Lead Free: Lead Free; ComponentLink1URL: https://datasheet.ciiva.com/3151/sn65lvds390-3151830.pdf; ComponentLink1Description: https://datasheet.ciiva.com/3151/sn65lvds390-3151830.pdf; ComponentLink2URL: https://datasheet.ciiva.com/15151/getdatasheetpartid-48691-15151063.pdf; ComponentLink2Description: https://datasheet.ciiva.com/15151/getdatasheetpartid-48691-15151063.pdf; ComponentLink3URL: https://datasheet.ciiva.com/1772/sn65lvds386-1772797.pdf; ComponentLink3Description: https://datasheet.ciiva.com/1772/sn65lvds386-1772797.pdf; ComponentLink4URL: https://datasheet.ciiva.com/26829/sn75lvds388adbt-26829559.pdf; ComponentLink4Description: https://datasheet.ciiva.com/26829/sn75lvds388adbt-26829559.pdf; Supplier Part Number 1: SN75LVDS388ADBT
footprint DBT R-PDSO-G38 (TSSOP, 38-Leads, Body 9.70x4.40mm, Pitch 0.50mm, IPC Medium Density)
part A pins: 1 IN0+ (in), 2 IN0- (in), 3 IN1+ (in), 4 IN1- (in), 6 IN2+ (in), 7 IN2- (in), 8 IN3+ (in), 9 IN3- (in), 11 IN4+ (in), 12 IN4- (in), 13 IN5+ (in), 14 IN5- (in), 16 IN6+ (in), 17 IN6- (in), 18 IN7+ (in), 19 IN7- (in), 22 EN67 (in), 23 OUT7 (hiz), 24 OUT6 (hiz), 25 EN45 (in), 26 OUT5 (hiz), 27 OUT4 (hiz), 31 OUT3 (hiz), 32 OUT2 (hiz), 33 EN23 (in), 34 OUT1 (hiz), 35 OUT0 (hiz), 36 EN01 (in)
part B pins: 5 AGND (power), 10 AGND (power), 15 AGND (power), 20 GND (power), 21 VCC (power), 28 DGND (power), 29 DVCC (power), 30 DGND (power), 37 VCC (power), 38 GND (power)

## SN75LVDT388A
designator U?
IC 8-CH HS DIFF RECEIVER 38TSSOP; Manufacturer: Texas Instruments; Manufacturer Part Number: SN75LVDT388ADBT; Propagation Delay: 4ns; Operating Supply Voltage: 3.3V; Data Rate: 630Mbps; Number of Elements: 8; Nominal Supply Current: 40mA; Min Supply Voltage: 3V; Max Supply Voltage: 3.6V; Power Dissipation: 1.071W; Supplier 1: Avnet; Stock 1: 33; Pricing 1: 1=5.89, 10=5.29, 25=5.29, 50=5.29, 100=4.19 (USD); Mount: Surface Mount; Case/Package: TSSOP; Number of Pins: 38; Weight: 0.004374oz; Min Operating Temperature: 0°C; Max Operating Temperature: 70°C; Packaging: Rail/Tube; Number of Receivers: 8; Package Quantity: 50; Number of Drivers: 8; Turn-On Delay Time: 4ns; Logic Function: Receiver; Radiation Hardening: No; Lead Free: Lead Free; ComponentLink1URL: https://datasheet.ciiva.com/19471/759181-19471137.pdf; ComponentLink1Description: https://datasheet.ciiva.com/19471/759181-19471137.pdf; ComponentLink2URL: https://datasheet.ciiva.com/15151/getdatasheetpartid-184251-15151653.pdf; ComponentLink2Description: https://datasheet.ciiva.com/15151/getdatasheetpartid-184251-15151653.pdf; ComponentLink3URL: https://datasheet.ciiva.com/1708/sn65lvds386-1708655.pdf; ComponentLink3Description: https://datasheet.ciiva.com/1708/sn65lvds386-1708655.pdf; ComponentLink4URL: https://datasheet.ciiva.com/26829/sn75lvdt388adbt-26829491.pdf; ComponentLink4Description: https://datasheet.ciiva.com/26829/sn75lvdt388adbt-26829491.pdf; Supplier Part Number 1: SN75LVDT388ADBT
footprint DBT R-PDSO-G38 (TSSOP, 38-Leads, Body 9.70x4.40mm, Pitch 0.50mm, IPC Medium Density)
part A pins: 1 IN0+ (in), 2 IN0- (in), 3 IN1+ (in), 4 IN1- (in), 6 IN2+ (in), 7 IN2- (in), 8 IN3+ (in), 9 IN3- (in), 11 IN4+ (in), 12 IN4- (in), 13 IN5+ (in), 14 IN5- (in), 16 IN6+ (in), 17 IN6- (in), 18 IN7+ (in), 19 IN7- (in), 22 EN67 (in), 23 OUT7 (hiz), 24 OUT6 (hiz), 25 EN45 (in), 26 OUT5 (hiz), 27 OUT4 (hiz), 31 OUT3 (hiz), 32 OUT2 (hiz), 33 EN23 (in), 34 OUT1 (hiz), 35 OUT0 (hiz), 36 EN01 (in)
part B pins: 5 AGND (power), 10 AGND (power), 15 AGND (power), 20 GND (power), 21 VCC (power), 28 DGND (power), 29 DVCC (power), 30 DGND (power), 37 VCC (power), 38 GND (power)

## SPlate_MC_S6
designator SP?, comment Stiffener Plate  (no BOM)
footprint MC_S6/SPLATE

## SWITCH SPST TIN 8 SEC 50V
designator S?  (value not drawn)
SWITCH, SPST, 8POS
footprint switch dip16
pins: 1, 2, 3, 4, 5, 6, 7, 8, 9, 10, 11, 12

## T491A475K016AT
designator C?, comment 4.7uF  Voltage - Rated: 16V  package: 1206
CAP TANT 4.7UF 16V 10% 1206; Manufacturer: KEMET; Manufacturer Part Number: T491A475K016AT; Manufacturer Size Code: A; Capacitance: 4.7µF; Type: Molded; ESR (Equivalent Series Resistance): 4 Ohm; Lifetime @ Temp.: 2000 Hrs @ 85°C; Supplier 1: Digi-Key; RoHS: RoHS Compliant; Category: Capacitors; Stock 1: 34219; Pricing 1: 1=0.35, 10=0.246, 25=0.202, 50=0.1724, 100=0.1478, 250=0.1232, 500=0.11088, 1000=0.09363 (USD); Packaging: Cut Tape (CT); Part Status: Active; Tolerance: ±10%; Operating Temperature: -55°C ~ 125°C; Mounting Type: Surface Mount; Size / Dimension: 0.126" L x 0.063" W (3.20mm x 1.60mm); Height - Seated (Max): 0.071" (1.80mm); Lead Spacing: -; Features: General Purpose; Failure Rate: -; ComponentLink1URL: http://www.kemet.com/Lists/ProductCatalog/Attachments/254/KEM_T2005_T491.pdf; ComponentLink1Description: http://www.kemet.com/Lists/ProductCatalog/Attachments/254/KEM_T2005_T491.pdf; Supplier 2: Digi-Key; Stock 2: 34219; Pricing 2: 1=0.35, 10=0.246, 25=0.202, 50=0.1724, 100=0.1478, 250=0.1232, 500=0.11088, 1000=0.09363 (USD); Supplier Part Number 1: 399-3697-1-ND; Supplier Part Number 2: 399-3697-6-ND; Package / Case: 1206 (3216 Metric)
footprint MC_S6/SM/CT_3216_18
pins: 1, 2
text: +

## T491D227K016AT
designator C?, comment 220uF  Voltage - Rated: 16V  package: 2917
CAP TANT 220UF 16V 10% 2917; Manufacturer: KEMET; Manufacturer Part Number: T491D227K016AT; Manufacturer Size Code: D; Capacitance: 220µF; Type: Molded; ESR (Equivalent Series Resistance): 500 mOhm; Lifetime @ Temp.: 2000 Hrs @ 85°C; Supplier 1: Digi-Key; RoHS: RoHS Compliant; Category: Capacitors; Stock 1: 48724; Pricing 1: 1=1.28, 10=1.009, 25=0.9248, 50=0.8744, 100=0.7568, 250=0.67268 (USD); Packaging: Cut Tape (CT); Part Status: Active; Tolerance: ±10%; Operating Temperature: -55°C ~ 125°C; Mounting Type: Surface Mount; Package / Case: 2917 (7343 Metric); Size / Dimension: 0.287" L x 0.169" W (7.30mm x 4.30mm); Height - Seated (Max): 0.122" (3.10mm); Lead Spacing: -; Features: General Purpose; Failure Rate: -; ComponentLink1URL: http://www.kemet.com/Lists/ProductCatalog/Attachments/254/KEM_T2005_T491.pdf; ComponentLink1Description: http://www.kemet.com/Lists/ProductCatalog/Attachments/254/KEM_T2005_T491.pdf; Supplier 2: Digi-Key; Stock 2: 48724; Pricing 2: 1=1.28, 10=1.009, 25=0.9248, 50=0.8744, 100=0.7568, 250=0.67268 (USD); Supplier Part Number 1: 399-10429-1-ND; Supplier Part Number 2: 399-10429-6-ND
footprint MC_S6/SM/CT_2917_D
pins: 1, 2
text: +

## T495D476K020ATE100
designator C?, comment 47uF  Voltage - Rated: 20V  package: 2917
CAP TANT 47UF 20V 10% 2917; Manufacturer: KEMET; Manufacturer Part Number: T495D476K020ATE100; Manufacturer Size Code: D; Capacitance: 47µF; Type: Molded; ESR (Equivalent Series Resistance): 100 mOhm; Lifetime @ Temp.: 2000 Hrs @ 85°C; Supplier 1: Digi-Key; RoHS: RoHS Compliant; Category: Capacitors; Stock 1: 1719; Pricing 1: 1=1.59, 10=1.255, 25=1.15, 50=1.0874, 100=0.941, 250=0.83644 (USD); Packaging: Cut Tape (CT); Part Status: Active; Tolerance: ±10%; Operating Temperature: -55°C ~ 125°C; Mounting Type: Surface Mount; Package / Case: 2917 (7343 Metric); Size / Dimension: 0.287" L x 0.169" W (7.30mm x 4.30mm); Height - Seated (Max): 0.122" (3.10mm); Lead Spacing: -; Features: General Purpose; Failure Rate: -; ComponentLink1URL: http://www.kemet.com/docfinder?Partnumber=T495D476K020ATE100; ComponentLink1Description: http://www.kemet.com/docfinder?Partnumber=T495D476K020ATE100; Supplier 2: Digi-Key; Stock 2: 1719; Pricing 2: 1=1.59, 10=1.255, 25=1.15, 50=1.0874, 100=0.941, 250=0.83644 (USD); Supplier Part Number 1: 399-4784-1-ND; Supplier Part Number 2: 399-4784-6-ND
footprint MC_S6/SM/CT_2917_D
pins: 1, 2
text: +

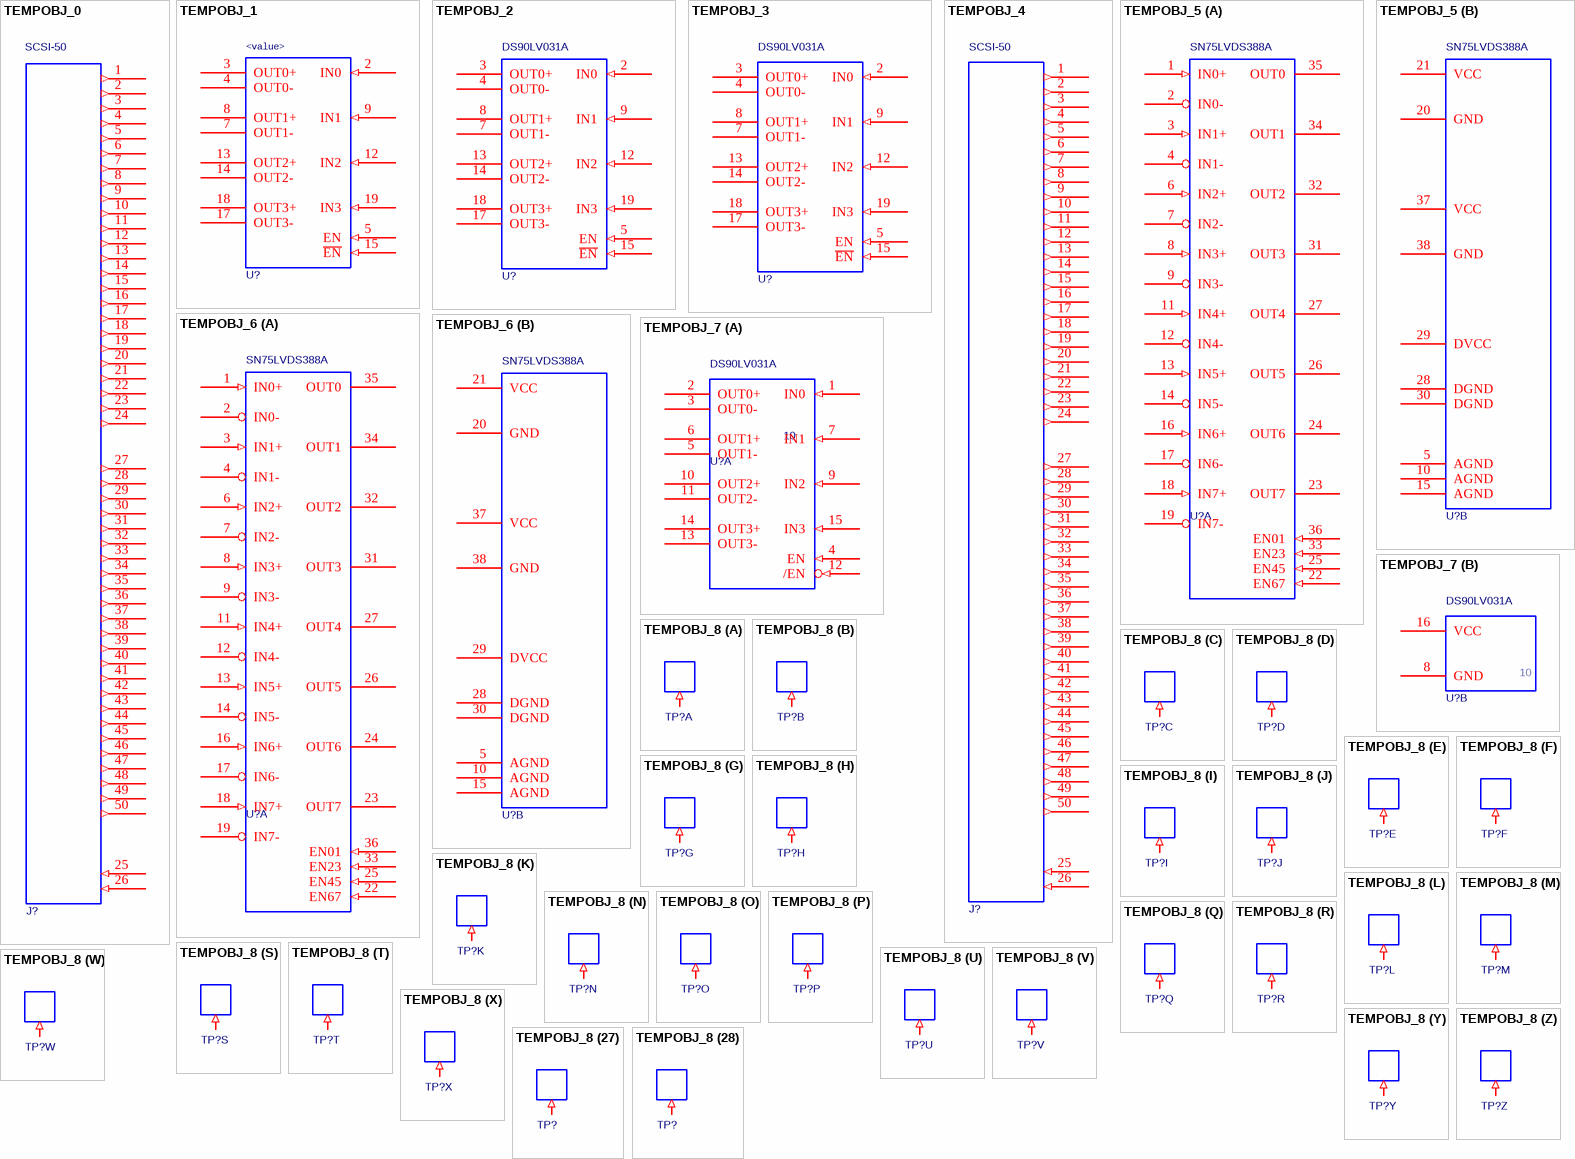
[diagram p8: symbols TEMPOBJ_0 to TEMPOBJ_8]

## TEMPOBJ_0
designator J?, comment SCSI-50
footprint SCSI-50
pins: 1 $PIN0 (out), 2 $PIN1 (out), 3 $PIN2 (out), 4 $PIN3 (out), 5 $PIN4 (out), 6 $PIN5 (out), 7 $PIN6 (out), 8 $PIN7 (out), 9 $PIN8 (out), 10 $PIN9 (out), 11 $PIN10 (out), 12 $PIN11 (out), 13 $PIN12 (out), 14 $PIN13 (out), 15 $PIN14 (out), 16 $PIN15 (out), 17 $PIN16 (out), 18 $PIN17 (out), 19 $PIN18 (out), 20 $PIN19 (out), 21 $PIN20 (out), 22 $PIN21 (out), 23 $PIN22 (out), 24 $PIN23 (out), 25 $PIN24 (in), 26 $PIN25 (in), 27 $PIN26 (out), 28 $PIN27 (out), 29 $PIN28 (out), 30 $PIN29 (out), 31 $PIN30 (out), 32 $PIN31 (out), 33 $PIN32 (out), 34 $PIN33 (out), 35 $PIN34 (out), 36 $PIN35 (out), 37 $PIN36 (out), 38 $PIN37 (out), 39 $PIN38 (out), 40 $PIN39 (out), 41 $PIN40 (out), 42 $PIN41 (out), 43 $PIN42 (out), 44 $PIN43 (out), 45 $PIN44 (out), 46 $PIN45 (out), 47 $PIN46 (out), 48 $PIN47 (out), 49 $PIN48 (out), 50 $PIN49 (out)

## TEMPOBJ_1
designator U?, comment V  (value not drawn)
footprint SOP16
pins: 2 IN0 (in), 3 OUT0+ (hiz), 4 OUT0- (hiz), 5 EN (in), 7 OUT1- (hiz), 8 OUT1+ (hiz), 9 IN1 (in), 10 GND (power) hidden to GND, 12 IN2 (in), 13 OUT2+ (hiz), 14 OUT2- (hiz), 15 ~{EN} (in), 17 OUT3- (hiz), 18 OUT3+ (hiz), 19 IN3 (in), 20 VCC (power) hidden to VCC
text: <value>

## TEMPOBJ_2
designator U?, comment DS90LV031A
footprint SOP16
pins: 2 IN0 (in), 3 OUT0+ (hiz), 4 OUT0- (hiz), 5 EN (in), 7 OUT1- (hiz), 8 OUT1+ (hiz), 9 IN1 (in), 10 GND (power) hidden to GND, 12 IN2 (in), 13 OUT2+ (hiz), 14 OUT2- (hiz), 15 ~{EN} (in), 17 OUT3- (hiz), 18 OUT3+ (hiz), 19 IN3 (in), 20 VCC (power) hidden to VCC

## TEMPOBJ_3
designator U?, comment DS90LV031A
footprint SOP16
pins: 2 IN0 (in), 3 OUT0+ (hiz), 4 OUT0- (hiz), 5 EN (in), 7 OUT1- (hiz), 8 OUT1+ (hiz), 9 IN1 (in), 10 GND (power) hidden to GND, 12 IN2 (in), 13 OUT2+ (hiz), 14 OUT2- (hiz), 15 ~{EN} (in), 17 OUT3- (hiz), 18 OUT3+ (hiz), 19 IN3 (in), 20 VCC (power) hidden to VCC

## TEMPOBJ_4
designator J?, comment SCSI-50
footprint SCSI-50
pins: 1 $PIN0 (out), 2 $PIN1 (out), 3 $PIN2 (out), 4 $PIN3 (out), 5 $PIN4 (out), 6 $PIN5 (out), 7 $PIN6 (out), 8 $PIN7 (out), 9 $PIN8 (out), 10 $PIN9 (out), 11 $PIN10 (out), 12 $PIN11 (out), 13 $PIN12 (out), 14 $PIN13 (out), 15 $PIN14 (out), 16 $PIN15 (out), 17 $PIN16 (out), 18 $PIN17 (out), 19 $PIN18 (out), 20 $PIN19 (out), 21 $PIN20 (out), 22 $PIN21 (out), 23 $PIN22 (out), 24 $PIN23 (out), 25 $PIN24 (in), 26 $PIN25 (in), 27 $PIN26 (out), 28 $PIN27 (out), 29 $PIN28 (out), 30 $PIN29 (out), 31 $PIN30 (out), 32 $PIN31 (out), 33 $PIN32 (out), 34 $PIN33 (out), 35 $PIN34 (out), 36 $PIN35 (out), 37 $PIN36 (out), 38 $PIN37 (out), 39 $PIN38 (out), 40 $PIN39 (out), 41 $PIN40 (out), 42 $PIN41 (out), 43 $PIN42 (out), 44 $PIN43 (out), 45 $PIN44 (out), 46 $PIN45 (out), 47 $PIN46 (out), 48 $PIN47 (out), 49 $PIN48 (out), 50 $PIN49 (out)

## TEMPOBJ_5
designator U?, comment SN75LVDS388A
footprint DBT38
part A pins: 1 IN0+ (in), 2 IN0- (hiz), 3 IN1+ (in), 4 IN1- (hiz), 6 IN2+ (in), 7 IN2- (hiz), 8 IN3+ (in), 9 IN3- (hiz), 11 IN4+ (in), 12 IN4- (hiz), 13 IN5+ (in), 14 IN5- (hiz), 16 IN6+ (in), 17 IN6- (hiz), 18 IN7+ (in), 19 IN7- (hiz), 22 EN67 (in), 23 OUT7 (hiz), 24 OUT6 (hiz), 25 EN45 (in), 26 OUT5 (hiz), 27 OUT4 (hiz), 31 OUT3 (hiz), 32 OUT2 (hiz), 33 EN23 (in), 34 OUT1 (hiz), 35 OUT0 (hiz), 36 EN01 (in)
part B pins: 5 AGND (power), 10 AGND (power), 15 AGND (power), 20 GND (power), 21 VCC (power), 28 DGND (power), 29 DVCC (power), 30 DGND (power), 37 VCC (power), 38 GND (power)